# Altium footprint library PcbLib1.PcbLib: 38 footprints (part 1 of 3)
Each footprint in its own frame and in the unit in brackets; x right, y up, seen from the top. Pads: shape width x height; smd on the part's side, far side on the other; paste and mask are expansions set on the pad; w line width, h text height; cw(c..) or ccw(c..) is an arc to the next point about the centre after c.
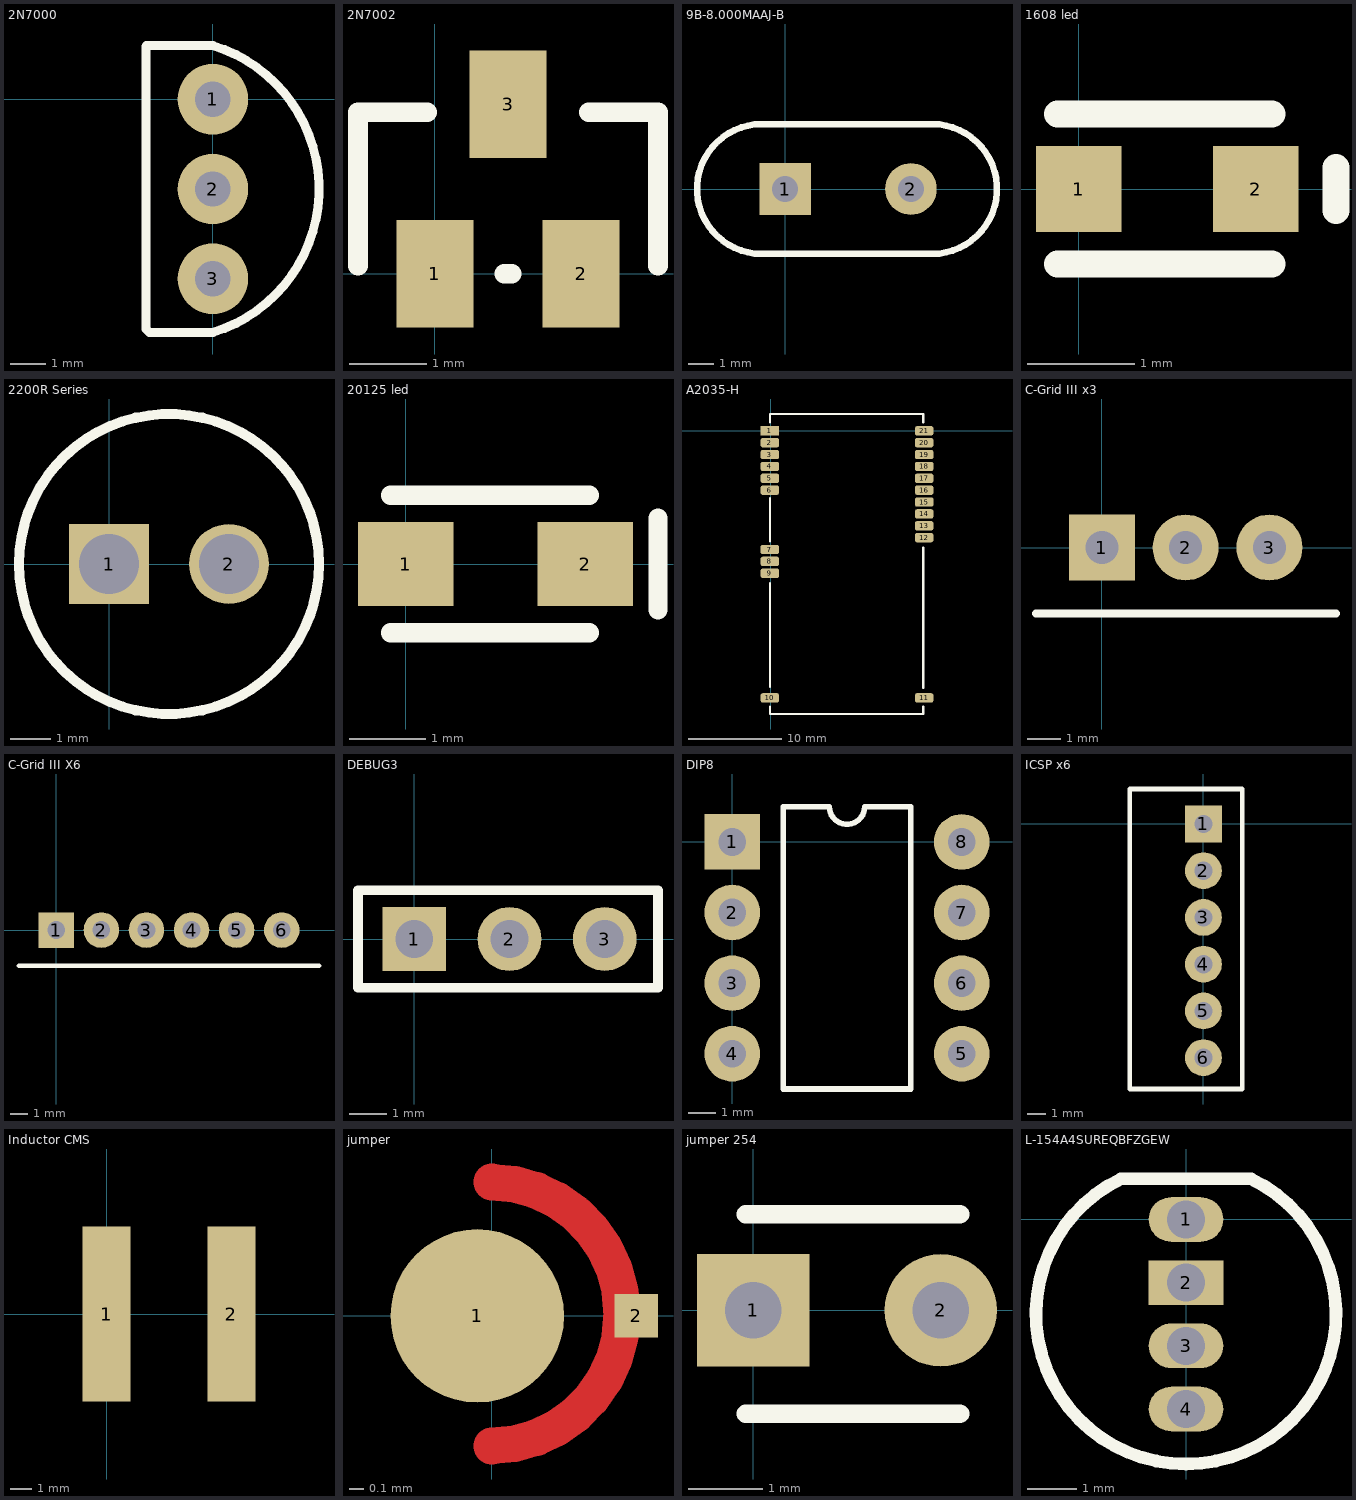
[diagram p0: the footprints below, top view; thin cyan lines are the x and y axes]

## 2N7000 [mm]
pads (3):
  round 2 hole 1: 1(0,0) 2(0,-2.54) 3(0,-5.08)
Top Overlay:
  lines w0.254: -1.9,1.5 -1.9,-6.5 -1.8,-6.6 0,-6.6 ccw(c-1.243,-2.54) 0,1.52 -1.88,1.52

## 2N7002 [mm]
pads (3):
  rect 1x1.4 smd: 1(0,0) 2(1.9,0) 3(0.95,2.2)
Top Overlay:
  lines w0.254: -1,0.1 -1,0.35 -1,1.85 -1,2.1 -0.1,2.1 ; 0.9,0 1,0 ; 2,2.1 2.9,2.1 2.9,1.85 2.9,0.35 2.9,0.1

## 9B-8.000MAAJ-B [mm] "Quartz 8MHz"
pads (2):
  rect 2x2 hole 1: 1(0,0)
  round 2 hole 1: 2(4.88,0)
Top Overlay:
  lines w0.254: 5.682,2.518 -0.9,2.518 ccw(c-0.9,0) -0.9,-2.518 5.7,-2.518 ccw(c5.7,0) 5.7,2.518

## 1608 led [mm] "led fp"
pads (2):
  rect 0.8x0.8 smd: 1(0,0) 2(1.65,0)
Top Overlay:
  lines w0.254: -0.2,-0.7 1.8,-0.7 ; -0.2,0.7 1.8,0.7 ; 2.4,-0.2 2.4,0.2

## 2200R Series [mm]
pads (2):
  rect 2x2 hole 1.5: 1(0,0)
  round 2 hole 1.5: 2(3,0)
Top Overlay:
  circle w0.254: c1.5,0 r3.75

## 20125 led [mm] "led fp"
pads (2):
  rect 1.25x1.1 smd: 1(0,0) 2(2.35,0)
Top Overlay:
  lines w0.254: -0.2,-0.9 2.4,-0.9 ; -0.2,0.9 2.4,0.9 ; 3.3,-0.6 3.3,0.6

## A2035-H [mm]
pads (21):
  rect 2x1 smd: 1(-0.11,0)
  rrect50% 2x1 smd: 2(-0.11,-1.27) 3(-0.11,-2.54) 4(-0.11,-3.81) 5(-0.11,-5.08) 6(-0.11,-6.35) 7(-0.11,-12.7) 8(-0.11,-13.97) 9(-0.11,-15.24) 10(-0.11,-28.575) 11(16.4,-28.575) 12(16.4,-11.43) 13(16.4,-10.16) 14(16.4,-8.89) 15(16.4,-7.62) 16(16.4,-6.35) 17(16.4,-5.08) 18(16.4,-3.81) 19(16.4,-2.54) 20(16.4,-1.27) 21(16.4,0)
Top Overlay:
  lines w0.254: -0.1,-29.5 -0.1,-30.3 16.3,-30.3 16.3,-29.5 ; -0.1,-27.4 -0.1,-16.3 ; -0.1,-11.8 -0.1,-7.2 ; -0.1,0.9 -0.1,1.8 16.3,1.8 16.3,0.9 ; 16.3,-27.5 16.3,-12.5

## C-Grid III x3 [mm]
pads (3):
  rect 2x2 hole 1: 1(0,0)
  round 2 hole 1: 2(2.54,0) 3(5.08,0)
Top Overlay:
  lines w0.254: -2,-2 7.1,-2

## C-Grid III X6 [mm]
pads (6):
  rect 2x2 hole 1: 1(0,0)
  round 2 hole 1: 2(2.54,0) 3(5.08,0) 4(7.62,0) 5(10.16,0) 6(12.7,0)
Top Overlay:
  lines w0.254: -2.1,-2 14.8,-2

## DEBUG3 [mm] "3 pin header footprint"
pads (3):
  rect 1.7x1.7 hole 1: 1(0,0)
  round 1.7 hole 1: 2(2.54,0) 3(5.08,0)
Top Overlay:
  lines w0.254: -1.5,-1.3 6.5,-1.3 6.5,1.3 -1.5,1.3 -1.5,-1.3

## DIP8 [mm]
pads (8):
  rect 2x2 hole 1: 1(0,0)
  round 2 hole 1: 2(0,-2.54) 3(0,-5.08) 4(0,-7.62) 5(8.26,-7.62) 6(8.26,-5.08) 7(8.26,-2.54) 8(8.26,0)
Top Overlay:
  lines w0.2: 1.835,-8.89 1.835,1.27 3.495,1.27 ccw(c4.13,1.27) 4.765,1.27 6.425,1.27 6.425,-8.89 1.835,-8.89

## ICSP x6 [mm]
pads (6):
  rect 2x2 hole 1: 1(0,0)
  round 2 hole 1: 2(0,-2.54) 3(0,-5.08) 4(0,-7.62) 5(0,-10.16) 6(0,-12.7)
Top Overlay:
  lines w0.254: -4,-14.4 -4,1.9 2.1,1.9 2.1,-14.4 -4,-14.4

## Inductor CMS [mm] "Power inductor footprint"
pads (2):
  rect 2.2x8 smd: 1(0,0) 2(5.7,0)

## jumper [mm] "jumper"
pads (2):
  round 1.2 smd: 1(-0.1,0)
  rect 0.3x0.3 smd: 2(1,0)
Top Layer:
  lines w0.254: 0,-0.9 ccw(c-0.012,0.013) 0.001,0.926

## jumper 254 [mil] "jumper 2"
pads (2):
  rect 60x60 hole 30: 1(0,0)
  round 60 hole 30: 2(100,0)
Top Overlay:
  lines w10: -3.94,-55.12 110.24,-55.12 ; -3.94,51.18 110.24,51.18

## L-154A4SUREQBFZGEW [mm] "LED RGB"
pads (4):
  oval 1.5x0.9 hole 0.762: 1(0,0) 3(0,-2.54) 4(0,-3.81)
  rect 1.5x0.9 hole 0.762: 2(0,-1.27)
Top Overlay:
  lines w0.254: -1.308,0.816 ccw(c0,-1.9) 1.308,0.816 -1.308,0.816